# EAGLE library part MAX931 (library ads)
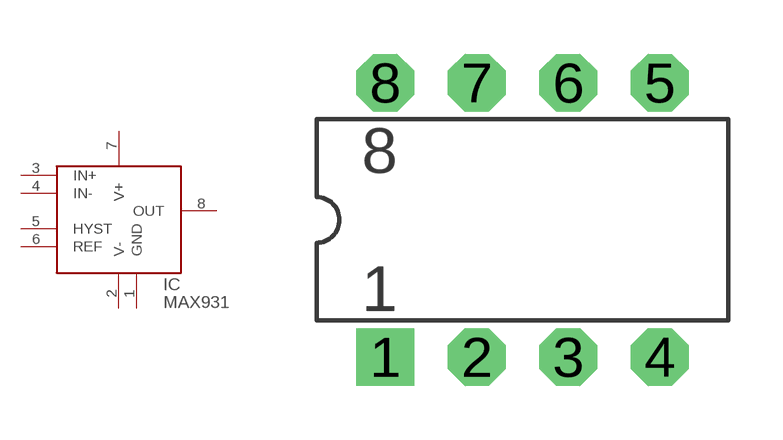
[diagram p16: symbol with the pads of DIP08; footprint DIP08]

Designator prefix IC

## MAX931  [DIP08]
1  GND  pwr
2  V-  in
3  IN+  in
4  IN-  in
5  HYST
6  REF
7  V+  in
8  OUT  out

## Footprint DIP08 (pad centres in mm)
drill 0.813 pad 1.6 square: 1 1.27,-3.81
drill 0.813 pad 1.6 octagon: 2 3.81,-3.81; 3 6.35,-3.81; 4 8.89,-3.81; 5 8.89,3.81; 6 6.35,3.81; 7 3.81,3.81; 8 1.27,3.81